# EAGLE library part MAX11044B (library custom)
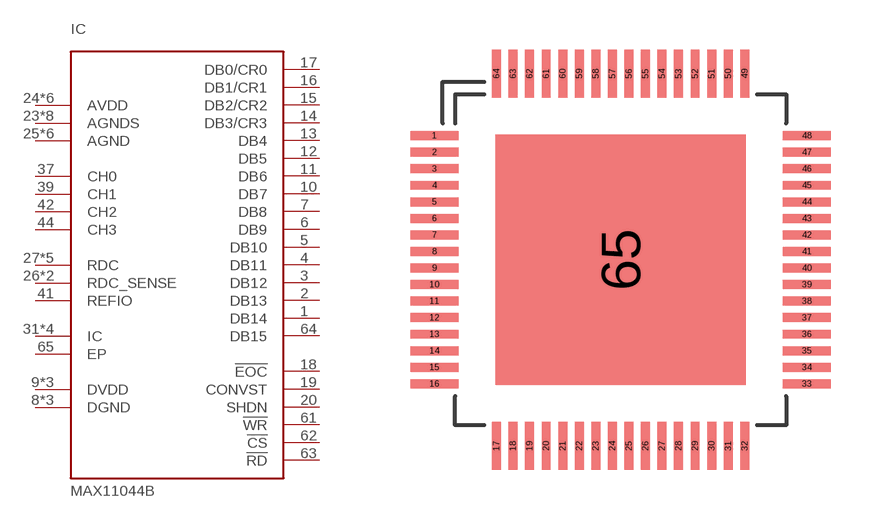
[diagram p1: symbol with the pads of TQFP64; footprint TQFP64]

Designator prefix IC

## MAX11044B  [TQFP64]
1  DB14  out
2  DB13  out
3  DB12  out
4  DB11  out
5  DB10  out
6  DB9  out
7  DB8  out
8  DGND  pwr
9  DVDD  pwr
10  DB7  out
11  DB6  out
12  DB5  out
13  DB4  out
14  DB3/CR3
15  DB2/CR2
16  DB1/CR1
17  DB0/CR0
18  !EOC
19  CONVST
20  SHDN
21  DVDD  pwr
22  DGND  pwr
23  AGNDS  pwr
24  AVDD  pwr
25  AGND  pwr
26  RDC_SENSE  in
27  RDC  in
28  AGNDS  pwr
29  AVDD  pwr
30  AGND  pwr
31  IC  in
32  AGNDS  pwr
33  RDC  in
34  IC  in
35  AVDD  pwr
36  AGND  pwr
37  CH0  in
38  AGNDS  pwr
39  CH1  in
40  RDC  in
41  REFIO  in
42  CH2  in
43  AGNDS  pwr
44  CH3  in
45  AGND  pwr
46  AVDD  pwr
47  IC  in
48  RDC  in
49  AGNDS  pwr
50  IC  in
51  AGND  pwr
52  AVDD  pwr
53  AGNDS  pwr
54  RDC  in
55  RDC_SENSE  in
56  AGND  pwr
57  AVDD  pwr
58  AGNDS  pwr
59  DGND  pwr
60  DVDD  pwr
61  !WR
62  !CS
63  !RD
64  DB15  out
65  EP  in

## Footprint TQFP64 (pad centres in mm)
smd 1.45 x 0.27: 1 -5.625,3.75; 2 -5.625,3.25; 3 -5.625,2.75; 4 -5.625,2.25; 5 -5.625,1.75; 6 -5.625,1.25; 7 -5.625,0.75; 8 -5.625,0.25; 9 -5.625,-0.25; 10 -5.625,-0.75; 11 -5.625,-1.25; 12 -5.625,-1.75; 13 -5.625,-2.25; 14 -5.625,-2.75; 15 -5.625,-3.25; 16 -5.625,-3.75; 33 5.625,-3.75; 34 5.625,-3.25; 35 5.625,-2.75; 36 5.625,-2.25; 37 5.625,-1.75; 38 5.625,-1.25; 39 5.625,-0.75; 40 5.625,-0.25; 41 5.625,0.25; 42 5.625,0.75; 43 5.625,1.25; 44 5.625,1.75; 45 5.625,2.25; 46 5.625,2.75; 47 5.625,3.25; 48 5.625,3.75
smd 0.27 x 1.45: 17 -3.75,-5.625; 18 -3.25,-5.625; 19 -2.75,-5.625; 20 -2.25,-5.625; 21 -1.75,-5.625; 22 -1.25,-5.625; 23 -0.75,-5.625; 24 -0.25,-5.625; 25 0.25,-5.625; 26 0.75,-5.625; 27 1.25,-5.625; 28 1.75,-5.625; 29 2.25,-5.625; 30 2.75,-5.625; 31 3.25,-5.625; 32 3.75,-5.625; 49 3.75,5.625; 50 3.25,5.625; 51 2.75,5.625; 52 2.25,5.625; 53 1.75,5.625; 54 1.25,5.625; 55 0.75,5.625; 56 0.25,5.625; 57 -0.25,5.625; 58 -0.75,5.625; 59 -1.25,5.625; 60 -1.75,5.625; 61 -2.25,5.625; 62 -2.75,5.625; 63 -3.25,5.625; 64 -3.75,5.625
smd 7.57 x 7.57: 65 0,0